# Altium footprint library PCB2.PcbLib: 56 footprints (part 1 of 4)
Each footprint in its own frame and in the unit in brackets; x right, y up, seen from the top. Pads: shape width x height; smd on the part's side, far side on the other; paste and mask are expansions set on the pad; w line width, h text height; cw(c..) or ccw(c..) is an arc to the next point about the centre after c.
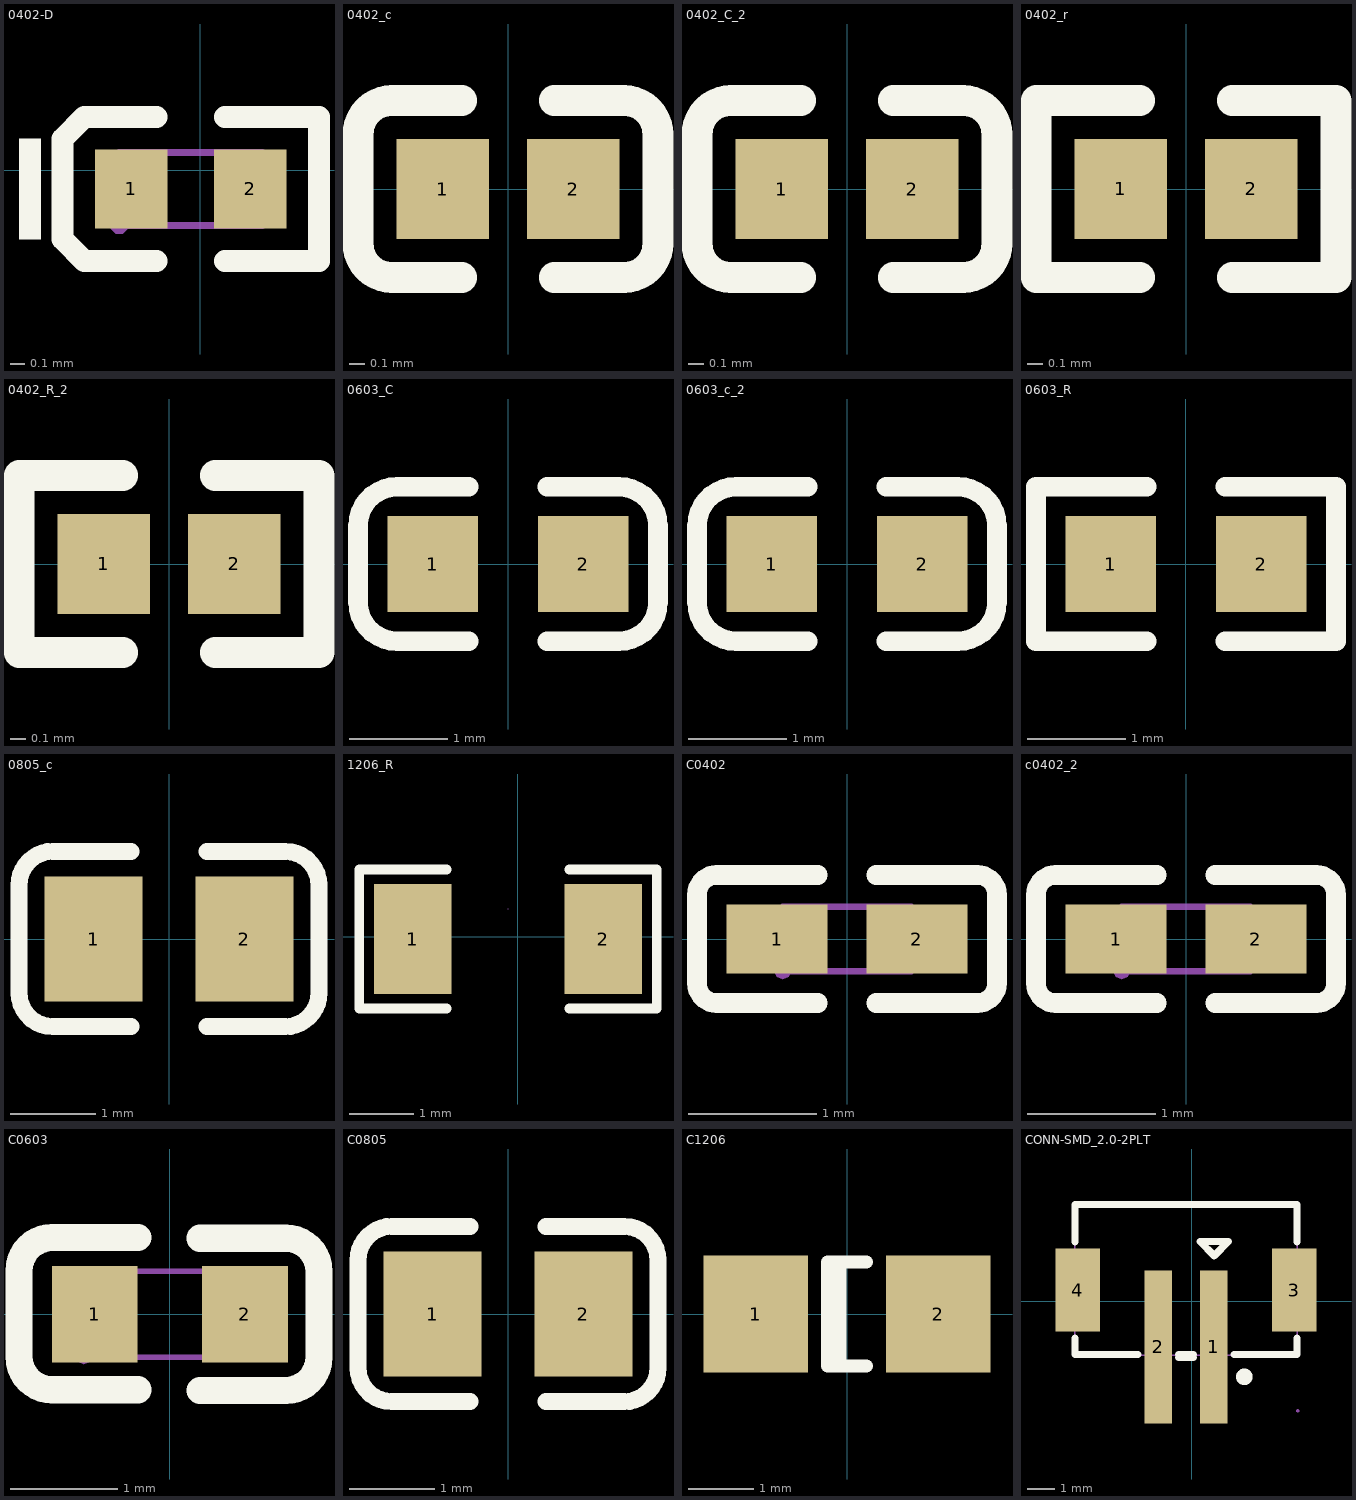
[diagram p0: the footprints below, top view; thin cyan lines are the x and y axes]

## 0402-D [mm]
height 6.86
pads (2):
  rect 0.505x0.551 smd paste-100 mask+0.051: 1(-0.484,-0.131) 2(0.349,-0.131)
Top Overlay:
  region: -1.118,-0.483 -1.118,0.221 -1.27,0.221 -1.27,-0.483
  lines w0.152: -0.308,-0.635 -0.813,-0.635 -0.965,-0.483 -0.965,0.221 -0.813,0.373 -0.308,0.373 ; 0.173,-0.635 0.83,-0.635 0.83,0.373 0.173,0.373
Top Paste:
  region: -0.215,0.104 -0.215,-0.366 -0.256,-0.406 -0.696,-0.406 -0.737,-0.366 -0.737,0.104 -0.696,0.145 -0.256,0.145
  region: 0.08,0.104 0.08,-0.366 0.121,-0.406 0.561,-0.406 0.602,-0.366 0.602,0.104 0.561,0.145 0.121,0.145
Mechanical 2:
  region: -0.506,-0.162 -0.506,-0.1 -0.261,-0.1 -0.261,-0.162
  region: 0.371,-0.162 0.371,-0.1 0.127,-0.1 0.127,-0.162
  region: 0.28,-0.335 0.28,0.073 0.218,0.073 0.218,-0.335
Mechanical 6:
  lines w0.051: -0.567,-0.386 -0.567,0.124 0.433,0.124 0.433,-0.386 -0.567,-0.386
Mechanical 8:
  region: -0.508,-0.386 -0.508,-0.411 -0.543,-0.446 -0.592,-0.446 -0.627,-0.411 -0.627,-0.386 -0.627,-0.361 -0.592,-0.326 -0.543,-0.326 -0.508,-0.361
Mechanical 9:
  region: -0.567,-0.386 -0.567,0.124 -0.327,0.124 -0.327,-0.386
  region: 0.433,-0.386 0.433,0.124 0.193,0.124 0.193,-0.386

## 0402_c [mm]
height 6.86
pads (2):
  rect 0.6x0.65 smd: 1(-0.425,0) 2(0.425,0)
Top Overlay:
  lines w0.2: -0.755,-0.575 cw(c-0.755,-0.355) -0.975,-0.355 -0.975,0.355 cw(c-0.755,0.355) -0.755,0.575 ; -0.75,-0.575 -0.3,-0.575 ; -0.75,0.575 -0.3,0.575 ; 0.3,-0.575 0.75,-0.575 ; 0.3,0.575 0.75,0.575 ; 0.755,-0.575 ccw(c0.755,-0.355) 0.975,-0.355 0.975,0.355 ccw(c0.755,0.355) 0.755,0.575
3D body "0402 SMD Capacitor.step": height 0.2, standoff 0, extent -0.483,-0.3 0.518,0.3

## 0402_C_2 [mm]
pads (2):
  rect 0.6x0.65 smd: 1(-0.425,0) 2(0.425,0)
Top Overlay:
  lines w0.2: -0.755,-0.575 cw(c-0.755,-0.355) -0.975,-0.355 -0.975,0.355 cw(c-0.755,0.355) -0.755,0.575 ; -0.75,-0.575 -0.3,-0.575 ; -0.75,0.575 -0.3,0.575 ; 0.3,-0.575 0.75,-0.575 ; 0.3,0.575 0.75,0.575 ; 0.755,-0.575 ccw(c0.755,-0.355) 0.975,-0.355 0.975,0.355 ccw(c0.755,0.355) 0.755,0.575
3D body "0402 SMD Capacitor.step": height 0.2, standoff 0, extent -0.483,-0.3 0.518,0.3

## 0402_r [mm]
height 6.86
pads (2):
  rect 0.6x0.65 smd: 1(-0.425,0) 2(0.425,0)
Top Overlay:
  lines w0.2: -0.3,-0.575 -0.975,-0.575 -0.975,0.575 -0.3,0.575 ; 0.3,-0.575 0.975,-0.575 0.975,0.575 0.3,0.575
3D body "User Library-RES_1005-0402.STEP": height 0.41, standoff 0, extent -0.575,-0.275 0.575,0.275

## 0402_R_2 [mm]
pads (2):
  rect 0.6x0.65 smd: 1(-0.425,0) 2(0.425,0)
Top Overlay:
  lines w0.2: -0.3,-0.575 -0.975,-0.575 -0.975,0.575 -0.3,0.575 ; 0.3,-0.575 0.975,-0.575 0.975,0.575 0.3,0.575
3D body "User Library-RES_1005-0402.STEP": height 0.41, standoff 0, extent -0.575,-0.275 0.575,0.275

## 0603_C [mm]
height 6.86
pads (2):
  rect 0.93x0.98 smd: 1(-0.77,0) 2(0.77,0)
Top Overlay:
  lines w0.2: -0.4,-0.79 -1.135,-0.79 cw(c-1.135,-0.39) -1.535,-0.39 -1.535,0.39 cw(c-1.135,0.39) -1.135,0.79 -0.4,0.79 ; 0.4,-0.79 1.135,-0.79 ccw(c1.135,-0.39) 1.535,-0.39 1.535,0.39 ccw(c1.135,0.39) 1.135,0.79 0.4,0.79
3D body "User Library-0603 SMD Capacitor.STEP": height 0.3, standoff 0, extent -0.8,-0.4 0.8,0.4

## 0603_c_2 [mm]
pads (2):
  rect 0.93x0.98 smd: 1(-0.77,0) 2(0.77,0)
Top Overlay:
  lines w0.2: -0.4,-0.79 -1.135,-0.79 cw(c-1.135,-0.39) -1.535,-0.39 -1.535,0.39 cw(c-1.135,0.39) -1.135,0.79 -0.4,0.79 ; 0.4,-0.79 1.135,-0.79 ccw(c1.135,-0.39) 1.535,-0.39 1.535,0.39 ccw(c1.135,0.39) 1.135,0.79 0.4,0.79
3D body "User Library-0603 SMD Capacitor.STEP": height 0.3, standoff 0, extent -0.8,-0.4 0.8,0.4

## 0603_R [mm]
height 6.86
pads (2):
  rect 0.93x0.98 smd: 1(-0.77,0) 2(0.77,0)
Top Overlay:
  lines w0.2: -0.4,-0.79 -1.535,-0.79 -1.535,0.79 -0.4,0.79 ; 0.4,-0.79 1.535,-0.79 1.535,0.79 0.4,0.79
3D body "User Library-RES_1609-0603.STEP": height 0.56, standoff 0, extent -0.85,-0.4 0.85,0.4

## 0805_c [mm]
height 6.86
pads (2):
  rect 1.16x1.47 smd: 1(-0.89,0) 2(0.89,0)
Top Overlay:
  lines w0.2: -0.45,-1.035 -1.37,-1.035 cw(c-1.37,-0.635) -1.77,-0.635 -1.77,0.635 cw(c-1.37,0.635) -1.37,1.035 -0.45,1.035 ; 0.45,-1.035 1.37,-1.035 ccw(c1.37,-0.635) 1.77,-0.635 1.77,0.635 ccw(c1.37,0.635) 1.37,1.035 0.45,1.035
3D body "User Library-0805 SMD Capacitor.STEP": height 0.77, standoff -0.01, extent -0.999,-0.625 1.001,0.625

## 1206_R [mm]
height 6.86
pads (2):
  rect 1.208x1.701 smd: 1(-1.631,-0.039) 2(1.326,-0.039)
Top Overlay:
  lines w0.152: -1.104,-1.118 -2.464,-1.118 -2.464,1.041 -1.104,1.041 ; 0.799,-1.118 2.158,-1.118 2.158,1.041 0.799,1.041
Top Paste:
  region: 0.722,-0.789 0.722,-0.428 0.822,-0.328 1.033,-0.328 1.133,-0.228 1.133,0.151 1.033,0.251 0.822,0.251 0.722,0.351 0.722,0.712 0.822,0.812 1.83,0.812 1.93,0.712 1.93,-0.789 1.83,-0.889 0.822,-0.889
  region: -1.028,-0.789 -1.028,-0.428 -1.128,-0.328 -1.338,-0.328 -1.438,-0.228 -1.438,0.151 -1.338,0.251 -1.128,0.251 -1.028,0.351 -1.028,0.712 -1.128,0.812 -2.135,0.812 -2.235,0.712 -2.235,-0.789 -2.135,-0.889 -1.128,-0.889
Mechanical 15:
  lines w0.003: -0.153,0.431 -0.152,0.432

## C0402 [mm]
height 6.86
pads (2):
  rect 0.79x0.54 smd: 1(-0.545,0) 2(0.545,0)
Top Overlay:
  lines w0.152: -0.226,-0.499 -1.016,-0.499 cw(c-1.016,-0.346) -1.169,-0.346 -1.169,0.346 cw(c-1.016,0.346) -1.016,0.499 -0.226,0.499 ; 0.226,-0.499 1.016,-0.499 ccw(c1.016,-0.346) 1.169,-0.346 1.169,0.346 ccw(c1.016,0.346) 1.016,0.499 0.226,0.499
Top Paste:
  region: -0.18,0.225 -0.18,-0.225 -0.25,-0.275 -0.73,-0.275 -0.78,-0.225 -0.78,0.225 -0.73,0.275 -0.25,0.275
  region: 0.78,0.225 0.78,-0.225 0.73,-0.275 0.25,-0.275 0.18,-0.225 0.18,0.225 0.25,0.275 0.73,0.275
Mechanical 15:
  region: -0.5,-0.25 -0.5,0.25 -0.25,0.25 -0.25,-0.25
  region: 0.5,-0.25 0.5,0.25 0.25,0.25 0.25,-0.25
  region: -0.5,-0.185 -0.454,-0.204 -0.435,-0.25 -0.454,-0.296 -0.5,-0.315 -0.546,-0.296 -0.565,-0.25 -0.546,-0.204
  lines w0.051: -0.5,-0.25 -0.5,0.25 0.5,0.25 0.5,-0.25 -0.5,-0.25

## c0402_2 [mm]
pads (2):
  rect 0.79x0.54 smd: 1(-0.545,0) 2(0.545,0)
Top Overlay:
  lines w0.152: -0.226,-0.499 -1.016,-0.499 cw(c-1.016,-0.346) -1.169,-0.346 -1.169,0.346 cw(c-1.016,0.346) -1.016,0.499 -0.226,0.499 ; 0.226,-0.499 1.016,-0.499 ccw(c1.016,-0.346) 1.169,-0.346 1.169,0.346 ccw(c1.016,0.346) 1.016,0.499 0.226,0.499
Top Paste:
  region: -0.18,0.225 -0.18,-0.225 -0.25,-0.275 -0.73,-0.275 -0.78,-0.225 -0.78,0.225 -0.73,0.275 -0.25,0.275
  region: 0.78,0.225 0.78,-0.225 0.73,-0.275 0.25,-0.275 0.18,-0.225 0.18,0.225 0.25,0.275 0.73,0.275
Mechanical 15:
  region: -0.5,-0.25 -0.5,0.25 -0.25,0.25 -0.25,-0.25
  region: 0.5,-0.25 0.5,0.25 0.25,0.25 0.25,-0.25
  region: -0.5,-0.185 -0.454,-0.204 -0.435,-0.25 -0.454,-0.296 -0.5,-0.315 -0.546,-0.296 -0.565,-0.25 -0.546,-0.204
  lines w0.051: -0.5,-0.25 -0.5,0.25 0.5,0.25 0.5,-0.25 -0.5,-0.25

## C0603 [mm]
height 6.86
pads (2):
  rect 0.8x0.9 smd: 1(-0.7,0) 2(0.7,0)
Top Overlay:
  lines w0.254: -0.296,-0.704 -1.096,-0.704 cw(c-1.096,-0.394) -1.406,-0.394 -1.405,0.406 cw(c-1.096,0.406) -1.096,0.715 -0.296,0.715 ; 0.28,-0.71 1.08,-0.71 ccw(c1.08,-0.4) 1.39,-0.4 1.39,0.4 ccw(c1.08,0.4) 1.08,0.71 0.28,0.71
Mechanical 15:
  region: -0.8,-0.4 -0.8,0.4 -0.5,0.4 -0.5,-0.4
  region: 0.8,-0.4 0.8,0.4 0.5,0.4 0.5,-0.4
  region: -0.735,-0.4 -0.754,-0.446 -0.8,-0.465 -0.846,-0.446 -0.865,-0.4 -0.846,-0.354 -0.8,-0.335 -0.754,-0.354
  lines w0.051: -0.8,-0.4 -0.8,0.4 0.8,0.4 0.8,-0.4 -0.8,-0.4

## C0805 [mm]
height 6.86
pads (2):
  rect 1.16x1.47 smd: 1(-0.89,0) 2(0.89,0)
Top Overlay:
  lines w0.2: -0.45,-1.035 -1.37,-1.035 cw(c-1.37,-0.635) -1.77,-0.635 -1.77,0.635 cw(c-1.37,0.635) -1.37,1.035 -0.45,1.035 ; 0.45,-1.035 1.37,-1.035 ccw(c1.37,-0.635) 1.77,-0.635 1.77,0.635 ccw(c1.37,0.635) 1.37,1.035 0.45,1.035
3D body "User Library-0805 SMD Capacitor.STEP": height 0.77, standoff -0.01, extent -0.999,-0.625 1.001,0.625

## C1206 [mm] "Chip Capacitor; Body 3.2 x 1.6 mm (LxW typ)"
height 1.35
pads (2):
  rect 1.6x1.8 smd: 1(-1.4,0) 2(1.4,0)
Top Overlay:
  lines w0.2: -0.11,-0.8 -0.11,0.8 ; 0.3,-0.8 -0.3,-0.8 -0.3,0.8 0.3,0.8

## CONN-SMD_2.0-2PLT [mm]
height 6.86
pads (4):
  rect 1x5.5 smd: 1(0.798,-1.644) 2(-1.202,-1.644)
  rect 1.6x3 smd: 3(3.698,0.406) 4(-4.102,0.406)
Top Overlay:
  circle w0.3: c1.898,-2.719 r0.15
  lines w0.254: -4.202,-1.325 -4.202,-1.919 -1.933,-1.919 ; -4.202,2.137 -4.202,2.473 ; -4.202,2.337 -4.202,3.481 3.698,3.481 3.798,3.481 3.798,2.337 3.798,2.137 ; -0.471,-2.019 0.067,-2.019 ; -0.471,-1.919 0.067,-1.919 ; 1.529,-1.919 3.798,-1.919 3.798,-1.325 ; 0.305,2.148 0.813,1.64 1.321,2.148 0.305,2.148
Mechanical 6:
  circle w0.3: c0.798,-2.819 r0.15
Mechanical 15:
  region: 0.548,0.856 1.048,0.856 1.048,-3.944 0.548,-3.944
  region: -1.452,0.856 -0.952,0.856 -0.952,-3.944 -1.452,-3.944
  region: -4.225,1.606 -3.725,1.606 -3.725,-0.794 -4.225,-0.794
  region: 3.321,1.606 3.821,1.606 3.821,-0.794 3.321,-0.794
  region: 3.881,-3.944 3.879,-3.92 3.845,-3.887 3.797,-3.887 3.762,-3.92 3.761,-3.944 3.762,-3.968 3.797,-4.001 3.845,-4.001 3.879,-3.968
  lines w0.051: -4.202,-1.94 -4.202,3.46 3.798,3.46 3.798,-1.94 -4.202,-1.94